# Altium footprint library footprints.PcbLib: 21 footprints (part 2 of 2)
Each footprint in its own frame and in the unit in brackets; x right, y up, seen from the top. Pads: shape width x height; smd on the part's side, far side on the other; paste and mask are expansions set on the pad; w line width, h text height; cw(c..) or ccw(c..) is an arc to the next point about the centre after c.
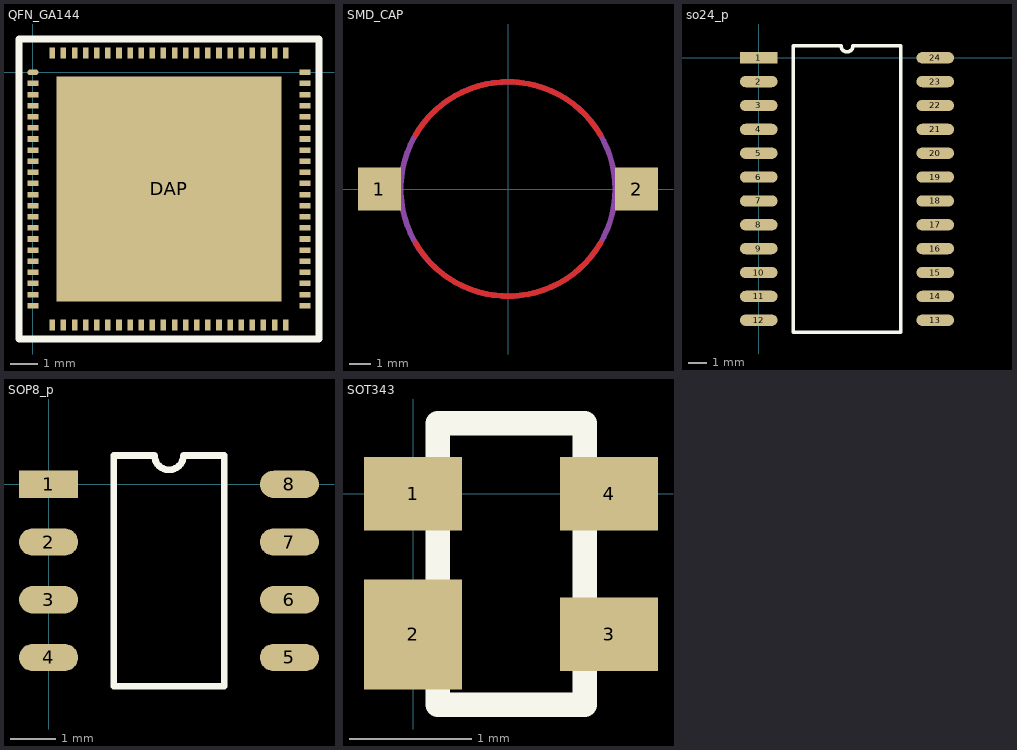
[diagram p1: the footprints below, top view; thin cyan lines are the x and y axes]

## QFN_GA144 [mm]
pads (89):
  oval 0.4x0.2 smd: 1(0,0)
  rect 0.4x0.2 smd: 2(0,-0.4) 3(0,-0.8) 4(0,-1.2) 5(0,-1.6) 6(0,-2) 7(0,-2.4) 8(0,-2.8) 9(0,-3.2) 10(0,-3.6) 11(0,-4) 12(0,-4.4) 13(0,-4.8) 14(0,-5.2) 15(0,-5.6) 16(0,-6) 17(0,-6.4) 18(0,-6.8) 19(0,-7.2) 20(0,-7.6) 21(0,-8) 22(0,-8.4) 45(9.8,-8.4) 46(9.8,-8) 47(9.8,-7.6) 48(9.8,-7.2) 49(9.8,-6.8) 50(9.8,-6.4) 51(9.8,-6) 52(9.8,-5.6) 53(9.8,-5.2) 54(9.8,-4.8) 55(9.8,-4.4) 56(9.8,-4) 57(9.8,-3.6) 58(9.8,-3.2) 59(9.8,-2.8) 60(9.8,-2.4) 61(9.8,-2) 62(9.8,-1.6) 63(9.8,-1.2) 64(9.8,-0.8) 65(9.8,-0.4) 66(9.8,0)
  rect 0.2x0.4 smd: 23(0.7,-9.1) 24(1.1,-9.1) 25(1.5,-9.1) 26(1.9,-9.1) 27(2.3,-9.1) 28(2.7,-9.1) 29(3.1,-9.1) 30(3.5,-9.1) 31(3.9,-9.1) 32(4.3,-9.1) 33(4.7,-9.1) 34(5.1,-9.1) 35(5.5,-9.1) 36(5.9,-9.1) 37(6.3,-9.1) 38(6.7,-9.1) 39(7.1,-9.1) 40(7.5,-9.1) 41(7.9,-9.1) 42(8.3,-9.1) 43(8.7,-9.1) 44(9.1,-9.1) 67(9.1,0.7) 68(8.7,0.7) 69(8.3,0.7) 70(7.9,0.7) 71(7.5,0.7) 72(7.1,0.7) 73(6.7,0.7) 74(6.3,0.7) 75(5.9,0.7) 76(5.5,0.7) 77(5.1,0.7) 78(4.7,0.7) 79(4.3,0.7) 80(3.9,0.7) 81(3.5,0.7) 82(3.1,0.7) 83(2.7,0.7) 84(2.3,0.7) 85(1.9,0.7) 86(1.5,0.7) 87(1.1,0.7) 88(0.7,0.7)
  rect 8.1x8.1 smd: DAP(4.9,-4.2)
Top Overlay:
  lines w0.254: -0.5,-9.6 -0.5,1.2 10.3,1.2 10.3,-9.6 -0.5,-9.6
3D body: height 0.8, standoff 0, extent -0.1,-9.2 9.9,0.8
3D body: height 0.86, standoff 0.85, extent 0.379,-0.649 1.375,0.349

## SMD_CAP [mm]
height 5
pads (2):
  rect 2x2 smd paste+0 mask+0: 1(-6,0) 2(6,0)
Top Layer:
  lines w0.254: -4.31,-2.535 ccw(c0,0) 4.31,-2.535 ; -4.31,2.535 cw(c0,0) 4.31,2.535
Mechanical 1:
  circle w0.254: c0,0 r5

## so24_p [mm]
height 2
pads (24):
  rect 2x0.6 smd: 1(0,0)
  oval 2x0.6 smd: 2(0,-1.27) 3(0,-2.54) 4(0,-3.81) 5(0,-5.08) 6(0,-6.35) 7(0,-7.62) 8(0,-8.89) 9(0,-10.16) 10(0,-11.43) 11(0,-12.7) 12(0,-13.97) 13(9.4,-13.97) 14(9.4,-12.7) 15(9.4,-11.43) 16(9.4,-10.16) 17(9.4,-8.89) 18(9.4,-7.62) 19(9.4,-6.35) 20(9.4,-5.08) 21(9.4,-3.81) 22(9.4,-2.54) 23(9.4,-1.27) 24(9.4,0)
Top Overlay:
  lines w0.2: 1.835,-14.605 1.835,0.635 4.382,0.635 ccw(c4.7,0.635) 5.017,0.635 7.565,0.635 7.565,-14.605 1.835,-14.605

## SOP8_p [mm]
pads (8):
  rect 1.3x0.6 smd: 1(0,0)
  oval 1.3x0.6 smd: 2(0,-1.27) 3(0,-2.54) 4(0,-3.81) 5(5.3,-3.81) 6(5.3,-2.54) 7(5.3,-1.27) 8(5.3,0)
Top Overlay:
  lines w0.15: 1.435,-4.445 3.865,-4.445 3.865,0.635 2.967,0.635 cw(c2.65,0.635) 2.332,0.635 1.435,0.635 1.435,-4.445

## SOT343 [mm]
pads (4):
  rect 0.8x0.6 smd: 1(0,0) 3(1.6,-1.15) 4(1.6,0)
  rect 0.8x0.9 smd: 2(0,-1.15)
Top Overlay:
  lines w0.2: 1.087,0.575 0.2,0.575 ; 0.2,0.575 1.4,0.575 1.4,-1.725 0.2,-1.725 0.2,0.575